# Altium footprint library hsbest2.PcbLib: 365 footprints (part 11 of 23)
Each footprint in its own frame and in the unit in brackets; x right, y up, seen from the top. Pads: shape width x height; smd on the part's side, far side on the other; paste and mask are expansions set on the pad; w line width, h text height; cw(c..) or ccw(c..) is an arc to the next point about the centre after c.
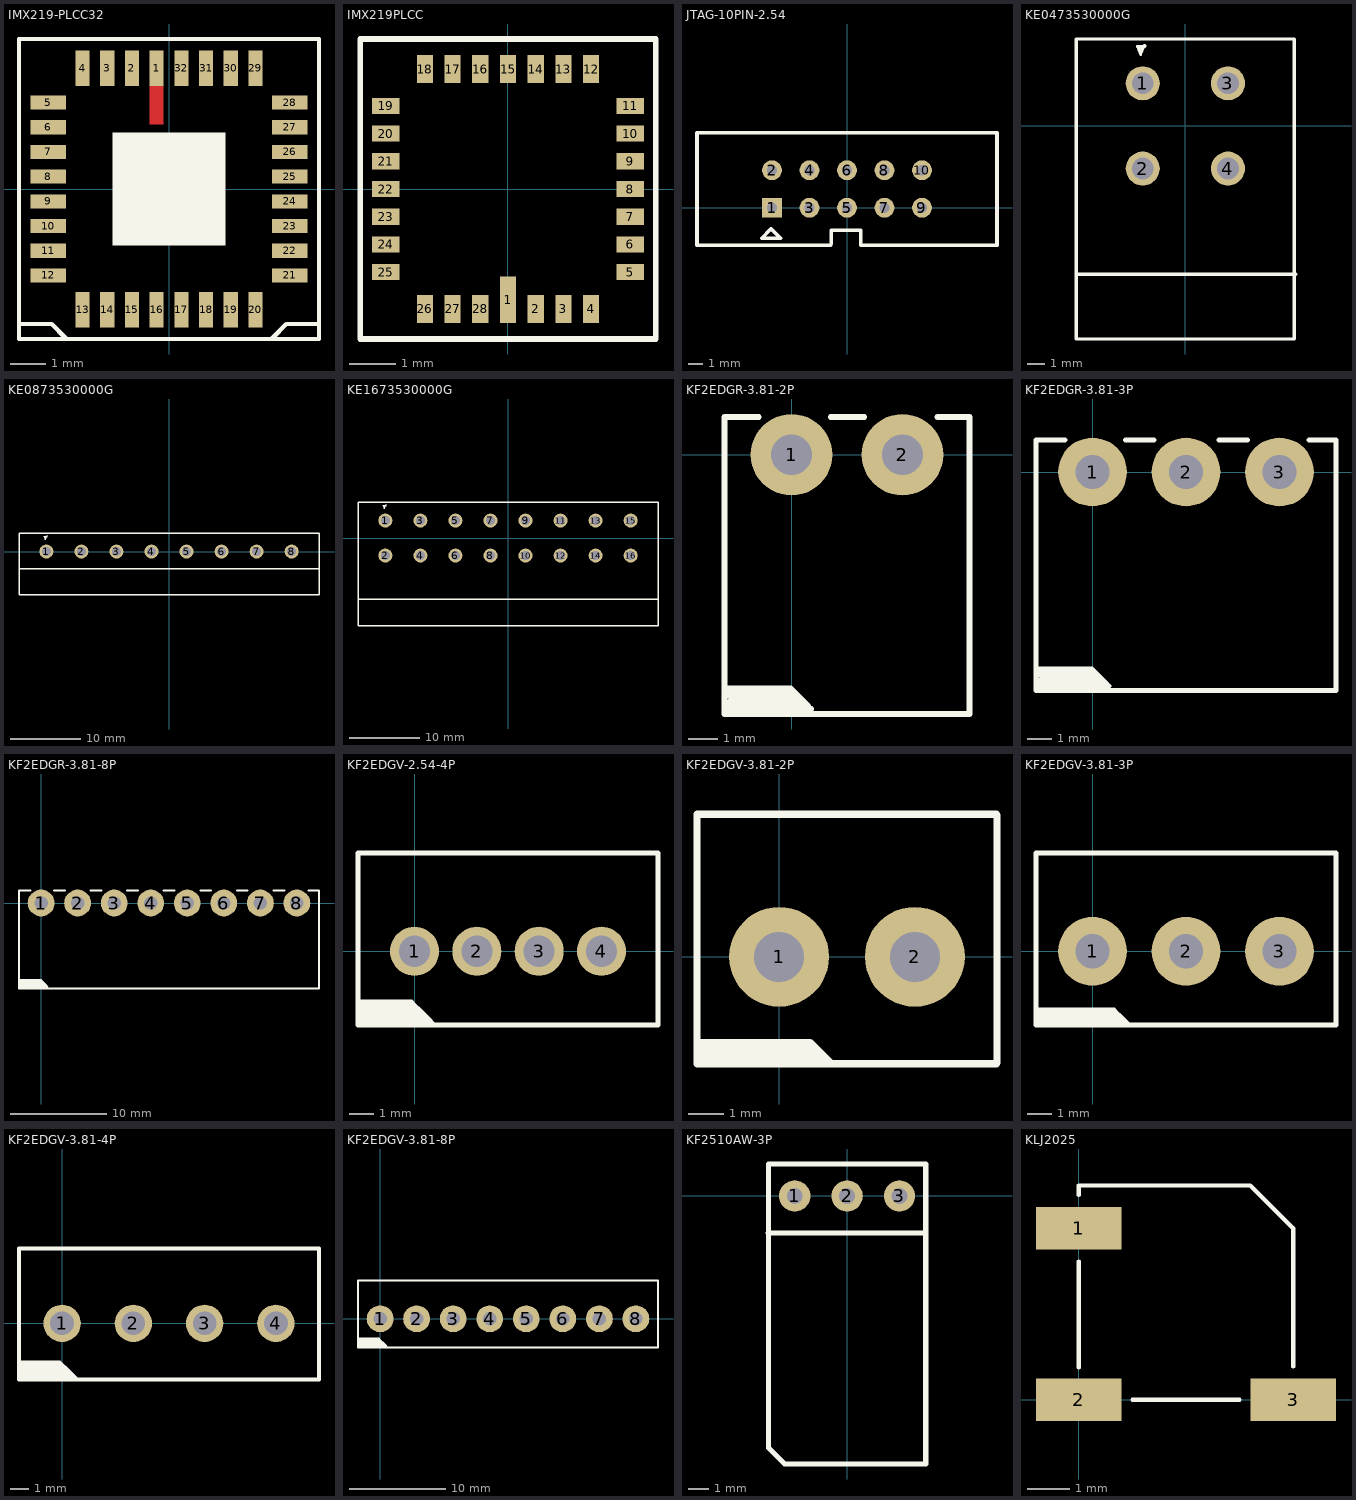
[diagram p10: the footprints below, top view; thin cyan lines are the x and y axes]

## IMX219-PLCC32 [mm]
pads (32):
  rect 0.4x1 smd: 1(-0.35,3.425) 2(-1.05,3.425) 3(-1.75,3.425) 4(-2.45,3.425) 13(-2.45,-3.425) 14(-1.75,-3.425) 15(-1.05,-3.425) 16(-0.35,-3.425) 17(0.35,-3.425) 18(1.05,-3.425) 19(1.75,-3.425) 20(2.45,-3.425) 29(2.45,3.425) 30(1.75,3.425) 31(1.05,3.425) 32(0.35,3.425)
  rect 1x0.4 smd: 5(-3.425,2.45) 6(-3.425,1.75) 7(-3.425,1.05) 8(-3.425,0.35) 9(-3.425,-0.35) 10(-3.425,-1.05) 11(-3.425,-1.75) 12(-3.425,-2.45) 21(3.425,-2.45) 22(3.425,-1.75) 23(3.425,-1.05) 24(3.425,-0.35) 25(3.425,0.35) 26(3.425,1.05) 27(3.425,1.75) 28(3.425,2.45)
Top Layer:
  rectangle: -0.55,1.825 -0.15,2.925
Top Overlay:
  rectangle: -1.6,-1.6 1.6,1.6
  lines w0.127: -4.25,-3.825 -3.325,-3.825 -2.925,-4.225 ; 2.925,-4.225 3.325,-3.825 4.25,-3.825 ; -4.25,-4.25 -4.25,4.25 4.25,4.25 4.25,-4.25 -4.25,-4.25
Top Solder:
  rectangle: -0.65,1.75 -0.05,2.825

## IMX219PLCC [mm]
pads (28):
  rect 0.35x1 smd: 1(0,-2.4)
  rect 0.35x0.6 smd: 2(0.6,-2.6) 3(1.2,-2.6) 4(1.8,-2.6) 12(1.8,2.6) 13(1.2,2.6) 14(0.6,2.6) 15(0,2.6) 16(-0.6,2.6) 17(-1.2,2.6) 18(-1.8,2.6) 26(-1.8,-2.6) 27(-1.2,-2.6) 28(-0.6,-2.6)
  rect 0.6x0.35 smd: 5(2.65,-1.8) 6(2.65,-1.2) 7(2.65,-0.6) 8(2.65,0) 9(2.65,0.6) 10(2.65,1.2) 11(2.65,1.8) 19(-2.65,1.8) 20(-2.65,1.2) 21(-2.65,0.6) 22(-2.65,0) 23(-2.65,-0.6) 24(-2.65,-1.2) 25(-2.65,-1.8)
Top Overlay:
  lines w0.127: -3.2,-3.25 3.2,-3.25 3.2,3.25 -3.2,3.25 -3.2,-3.25

## JTAG-10PIN-2.54 [mm]
height 12.3
pads (10):
  rect 1.35x1.35 hole 0.7: 1(-5.08,0)
  round 1.35 hole 0.7: 2(-5.08,2.54) 3(-2.54,0) 4(-2.54,2.54) 5(0,0) 6(0,2.54) 7(2.54,0) 8(2.54,2.54) 9(5.08,0) 10(5.08,2.54)
Top Overlay:
  lines w0.25: -1.1,-2.54 -10.16,-2.54 -10.16,5.08 10.16,5.08 10.16,-2.54 0.95,-2.54 ; -1.064,-2.415 -1.064,-1.524 0.936,-1.524 0.936,-2.415 ; -5.778,-2.058 -5.143,-1.423 -4.508,-2.058 -5.778,-2.058

## KE0473530000G [mm]
pads (4):
  round 2 hole 1.27: 1(-2.5,2.5) 2(-2.5,-2.5) 3(2.5,2.5) 4(2.5,-2.5)
Top Overlay:
  circle w0.127: c-2.4,4.684 r0.052
  lines w0.127: -2.825,4.645 -2.825,4.684 ; -2.819,4.631 -2.819,4.684 ; -2.735,4.435 -2.735,4.684 ; -2.652,4.239 -2.652,4.684 ; -2.568,4.293 -2.568,4.684 ; -2.484,4.488 -2.484,4.684 ; -2.842,4.684 -2.4,4.684 -2.621,4.168 -2.842,4.684
  lines w0.203: -6.275,-8.7 6.475,-8.7 ; 6.375,-12.5 -6.4,-12.5 -6.4,5.1 6.4,5.1 6.4,-12.5

## KE0873530000G [mm]
pads (8):
  round 2 hole 1.27: 1(-17.5,0) 2(-12.5,0) 3(-7.5,0) 4(-2.5,0) 5(2.5,0) 6(7.5,0) 7(12.5,0) 8(17.5,0)
Top Overlay:
  circle w0.127: c-17.4,2.184 r0.052
  lines w0.127: -17.825,2.145 -17.825,2.184 ; -17.819,2.131 -17.819,2.184 ; -17.735,1.935 -17.735,2.184 ; -17.652,1.739 -17.652,2.184 ; -17.568,1.793 -17.568,2.184 ; -17.484,1.988 -17.484,2.184 ; -17.842,2.184 -17.4,2.184 -17.621,1.668 -17.842,2.184
  lines w0.203: -21.325,-2.425 21.35,-2.425 ; -21.4,-6.15 -21.4,2.6 21.4,2.6 21.4,-6.15 -21.4,-6.15

## KE1673530000G [mm]
pads (16):
  round 2 hole 1.27: 1(-17.5,2.5) 2(-17.5,-2.5) 3(-12.5,2.5) 4(-12.5,-2.5) 5(-7.5,2.5) 6(-7.5,-2.5) 7(-2.5,2.5) 8(-2.5,-2.5) 9(2.5,2.5) 10(2.5,-2.5) 11(7.5,2.5) 12(7.5,-2.5) 13(12.5,2.5) 14(12.5,-2.5) 15(17.5,2.5) 16(17.5,-2.5)
Top Overlay:
  circle w0.127: c-17.4,4.684 r0.052
  lines w0.127: -17.825,4.645 -17.825,4.684 ; -17.819,4.631 -17.819,4.684 ; -17.735,4.435 -17.735,4.684 ; -17.652,4.239 -17.652,4.684 ; -17.568,4.293 -17.568,4.684 ; -17.484,4.488 -17.484,4.684 ; -17.842,4.684 -17.621,4.168 -17.4,4.684 -17.842,4.684
  lines w0.203: -21.275,-8.7 21.4,-8.7 ; -21.4,-12.5 21.4,-12.5 21.4,5.1 -21.4,5.1 -21.4,-12.5

## KF2EDGR-3.81-2P [mm]
height 7
pads (2):
  round 2.8 hole 1.4: 1(0,0) 2(3.81,0)
Top Overlay:
  lines w0.2: -2.2,-8.6 0.35,-8.6 0.45,-8.5 -2.15,-8.5 -2.05,-8.4 0.225,-8.4 ; -2.2,-8.275 0.225,-8.275 ; -2.175,-8.025 -0.025,-8.025 0.575,-8.625 0.575,-8.825 -2.1,-8.825 -2.2,-8.725 0.675,-8.725 ; -2.15,-8.2 0,-8.2 ; -1.125,1.3 -2.305,1.3 -2.305,-8.9 6.1,-8.9 ; 1.35,1.3 2.5,1.3 ; 5.015,1.3 6.115,1.3 6.115,-8.9

## KF2EDGR-3.81-3P [mm]
height 7
pads (3):
  round 2.8 hole 1.4: 1(0,0) 2(3.81,0) 3(7.62,0)
Top Overlay:
  lines w0.2: -2.2,-8.6 0.35,-8.6 0.45,-8.5 -2.15,-8.5 -2.05,-8.4 0.225,-8.4 ; -2.2,-8.275 0.225,-8.275 ; -2.175,-8.025 -0.025,-8.025 0.575,-8.625 0.575,-8.825 -2.1,-8.825 -2.2,-8.725 0.675,-8.725 ; -2.15,-8.2 0,-8.2 ; -1.125,1.3 -2.305,1.3 -2.305,-8.9 9.925,-8.9 9.925,1.3 8.825,1.3 ; 1.35,1.3 2.5,1.3 ; 5.16,1.3 6.31,1.3

## KF2EDGR-3.81-8P [mm]
height 7
pads (8):
  round 2.8 hole 1.4: 1(0,0) 2(3.81,0) 3(7.62,0) 4(11.43,0) 5(15.24,0) 6(19.05,0) 7(22.86,0) 8(26.67,0)
Top Overlay:
  lines w0.2: -2.2,-8.6 0.35,-8.6 0.45,-8.5 -2.15,-8.5 -2.05,-8.4 0.225,-8.4 ; -2.2,-8.275 0.225,-8.275 ; -2.175,-8.025 -0.025,-8.025 0.575,-8.625 0.575,-8.825 -2.1,-8.825 -2.2,-8.725 0.675,-8.725 ; -2.15,-8.2 0,-8.2 ; -1.125,1.3 -2.305,1.3 -2.305,-8.9 28.975,-8.9 28.975,1.3 27.875,1.3 ; 1.35,1.3 2.5,1.3 ; 5.16,1.3 6.31,1.3 ; 8.97,1.3 10.12,1.3 ; 12.78,1.3 13.93,1.3 ; 16.59,1.3 17.74,1.3 ; 20.4,1.3 21.55,1.3 ; 24.21,1.3 25.36,1.3

## KF2EDGV-2.54-4P [mm]
pads (4):
  round 2 hole 1.27: 1(0,0) 2(2.54,0) 3(5.08,0) 4(7.62,0)
Top Overlay:
  lines w0.2: -2.305,-2.65 0.245,-2.65 0.345,-2.55 ; -2.305,-2.325 0.12,-2.325 0.77,-2.975 ; -2.28,-2.075 -0.13,-2.075 0.57,-2.775 ; -2.255,-2.25 -0.105,-2.25 ; 0.12,-2.45 -2.155,-2.45 -2.255,-2.55 0.345,-2.55 ; 9.875,-3 -2.305,-3 -2.305,4 9.925,4 9.925,-3 ; 0.345,-2.55 0.77,-2.975 ; 0.57,-2.775 -2.305,-2.775 -2.205,-2.875 0.47,-2.875 0.57,-2.775 ; 0.57,-2.775 0.77,-2.975

## KF2EDGV-3.81-2P [mm]
height 9.2
pads (2):
  round 2.8 hole 1.4: 1(0,0) 2(3.81,0)
Top Overlay:
  lines w0.2: -2.305,-2.4 0.87,-2.4 1.47,-3 ; -2.255,-2.8 1.27,-2.8 1.47,-3 ; -2.23,-2.6 1.07,-2.6 1.47,-3 ; -2.305,-3 6.1,-3 6.115,-2.985 6.115,3.985 6.1,4 -2.305,4 -2.305,-3

## KF2EDGV-3.81-3P [mm]
height 9.2
pads (3):
  round 2.8 hole 1.4: 1(0,0) 2(3.81,0) 3(7.62,0)
Top Overlay:
  lines w0.2: -2.305,-2.4 0.87,-2.4 1.47,-3 ; -2.255,-2.8 1.27,-2.8 1.47,-3 ; -2.23,-2.6 1.07,-2.6 1.47,-3 ; -2.305,-3 -2.305,4 9.925,4 9.925,-3 -2.305,-3

## KF2EDGV-3.81-4P [mm]
pads (4):
  round 2 hole 1.27: 1(0,0) 2(3.81,0) 3(7.62,0) 4(11.43,0)
Top Overlay:
  lines w0.2: -2.305,-2.65 0.245,-2.65 0.345,-2.55 ; -2.305,-2.325 0.12,-2.325 0.77,-2.975 ; -2.28,-2.075 -0.13,-2.075 0.57,-2.775 ; -2.255,-2.25 -0.105,-2.25 ; 0.12,-2.45 -2.155,-2.45 -2.255,-2.55 0.345,-2.55 ; 13.65,4 -2.305,4 -2.305,-3 13.735,-3 13.735,4 ; 0.345,-2.55 0.77,-2.975 ; 0.57,-2.775 -2.305,-2.775 -2.205,-2.875 0.47,-2.875 0.57,-2.775 ; 0.57,-2.775 0.77,-2.975

## KF2EDGV-3.81-8P [mm]
pads (8):
  round 2.8 hole 1.4: 1(0,0) 2(3.81,0) 3(7.62,0) 4(11.43,0) 5(15.24,0) 6(19.05,0) 7(22.86,0) 8(26.67,0)
Top Overlay:
  lines w0.2: -2.305,-2.65 0.245,-2.65 0.345,-2.55 ; -2.305,-2.325 0.12,-2.325 0.77,-2.975 ; -2.28,-2.075 -0.13,-2.075 0.57,-2.775 ; -2.255,-2.25 -0.105,-2.25 ; 0.12,-2.45 -2.155,-2.45 -2.255,-2.55 0.345,-2.55 ; 0.345,-2.55 0.77,-2.975 ; 0.57,-2.775 -2.305,-2.775 -2.205,-2.875 0.47,-2.875 0.57,-2.775 ; 0.57,-2.775 0.77,-2.975 ; -2.305,-3 -2.305,4 28.975,4 28.975,-3 -2.305,-3

## KF2510AW-3P [mil]
pads (3):
  round 60 hole 30: 1(-100,0) 2(0,0) 3(100,0)
Top Overlay:
  lines w10: -150.39,-70.87 149.61,-70.87 ; -150,-480.91 -150,61.02 150,61.02 150,-511.81 -119.09,-511.81 -150,-480.91

## KLJ2025 [mm]
pads (3):
  rect 2x1 smd: 1(0,4) 2(0,0) 3(5,0)
Top Overlay:
  lines w0.1: 0,0.75 0,3.225 ; 0,4.775 0,5 4,5 5,4 5,0.775 ; 1.25,0 3.75,0